# Altium schematic symbol library Conn_3M_220-3342-00-0602J_eec.SchLib: 1 symbol
Pins are listed as number, name and electrical type; pins without a type are passive.

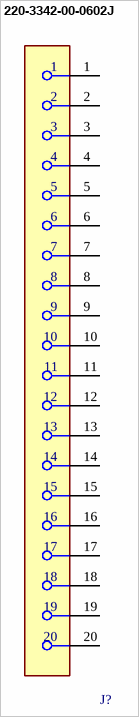
[diagram p0: symbol 220-3342-00-0602J]

## 220-3342-00-0602J
designator J?  (value not drawn)
footprint 3M_0_0
pins: 1, 2, 3, 4, 5, 6, 7, 8, 9, 10, 11, 12, 13, 14, 15, 16, 17, 18, 19, 20